# Altium schematic symbol library CompontentesEsquemáticos.SchLib: 2 symbols
Pins are listed as number, name and electrical type; pins without a type are passive.

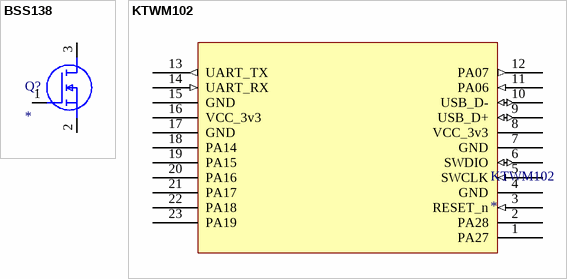
[diagram p0: symbols BSS138 to KTWM102]

## BSS138
designator Q?
MOSFET (N-Channel); Manufacturer_Name: ON Semiconductor; Manufacturer_Part_Number: BSS138; Description: N-channel MOSFET,BSS138 0.2A 50V; Datasheet Link: https://www.onsemi.com/pub/Collateral/BSS138-D.PDF; Height: 1.2mm; Arrow Part Number: BSS138; Arrow Price/Stock: https://www.arrow.com/en/products/bss138/on-semiconductor; Mouser Part Number: 512-BSS138; Mouser Price/Stock: https://www.mouser.co.uk/ProductDetail/ON-Semiconductor-Fairchild/BSS138?qs=HK%252BeIG1iaahCeqBvjB4arg%3D%3D
footprint SOT95P240X120-3N
pins: 1 G, 2 S, 3 D

## KTWM102
designator KTWM102
https://www.kirale.com/products/ktwm102/
footprint KTWM102
pins: 1 PA27, 2 PA28, 3 RESET_n (in), 4 GND (power), 5 SWCLK (in) "Serial Wire Debug Interface", 6 SWDIO (io) "Serial Wire Debug Interface", 7 GND (power), 8 VCC_3v3 (power), 9 USB_D+ (io), 10 USB_D- (io), 11 PA06 (in), 12 PA07 (out), 13 UART_TX (out) "PA08", 14 UART_RX (in) "PA09", 15 GND (power), 16 VCC_3v3 (power), 17 GND (power), 18 PA14, 19 PA15, 20 PA16, 21 PA17, 22 PA18, 23 PA19